# EAGLE library part LT6206 (library personal)
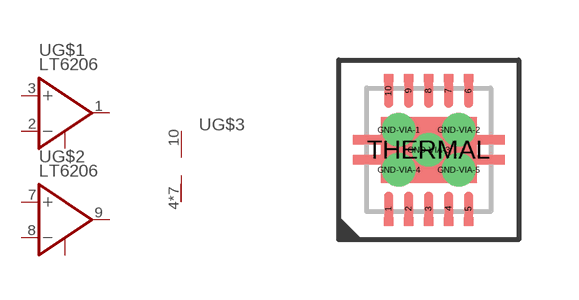
[diagram p17: symbol with the pads of DFN-10; footprint DFN-10]

Designator prefix U; gates G$1=OPAMP G$2=OPAMP G$3=V+-

## LT6206  [DFN-10]
1  G$1:OUT  out
2  G$1:-IN  in
3  G$1:+IN  in
4  G$3:V-  pwr
7  G$2:+IN  in
8  G$2:-IN  in
9  G$2:OUT  out
10  G$3:V+  pwr
GND-VIA-1  G$3:V-  pwr
GND-VIA-2  G$3:V-  pwr
GND-VIA-3  G$3:V-  pwr
GND-VIA-4  G$3:V-  pwr
GND-VIA-5  G$3:V-  pwr
THERMAL  G$3:V-  pwr

## Footprint DFN-10 (pad centres in mm)
smd 0.23 x 0.85: 1 -1,-1.475; 2 -0.5,-1.475; 3 0,-1.475; 4 0.5,-1.475; 5 1,-1.475; 6 1,1.475; 7 0.5,1.475; 8 0,1.475; 9 -0.5,1.475; 10 -1,1.475
drill 0.33 pad 0.508: GND-VIA-1 -0.75,0.5; GND-VIA-2 0.75,0.5; GND-VIA-3 0,0; GND-VIA-4 -0.75,-0.5; GND-VIA-5 0.75,-0.5
smd 2.4 x 1.65: THERMAL 0,0